# Altium footprint library footprints.PcbLib: 3 footprints
Each footprint in its own frame and in the unit in brackets; x right, y up, seen from the top. Pads: shape width x height; smd on the part's side, far side on the other; paste and mask are expansions set on the pad; w line width, h text height; cw(c..) or ccw(c..) is an arc to the next point about the centre after c.
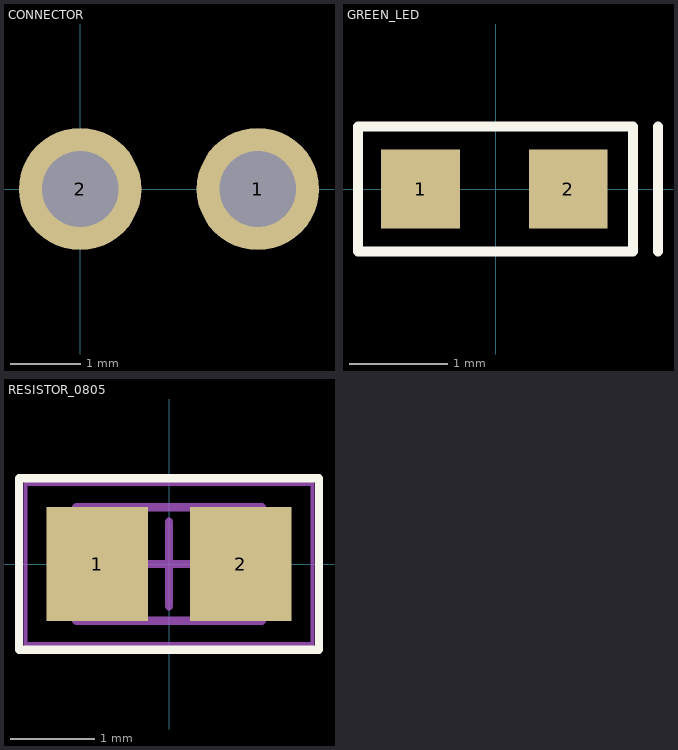
[diagram p0: the footprints below, top view; thin cyan lines are the x and y axes]

## CONNECTOR [mm]
pads (2):
  round 1.75 hole 1.09: 1(2.54,0) 2(0,0)
3D body "705530001.stp": height 5.06, standoff -5.22, extent -2.413,-12.954 4.953,0.635

## GREEN_LED [mm]
pads (2):
  rect 0.8x0.8 smd: 1(-0.762,0) 2(0.738,0)
Top Overlay:
  lines w0.1: 1.651,-0.635 1.651,0.635 ; -1.397,-0.635 -1.397,0.635 1.397,0.635 1.397,-0.635 -1.397,-0.635

## RESISTOR_0805 [mm] "Chip Resistor, 2-Leads, Body 2.00x1.25mm, IPC Medium Density"
height 0.6
pads (2):
  rect 1.2x1.35 smd: 1(-0.85,0) 2(0.85,0)
Top Overlay:
  lines w0.1: -1.778,-1.016 1.778,-1.016 1.778,1.016 -1.778,1.016 -1.778,-1.016
Mechanical 13:
  lines w0.1: -1.1,-0.675 1.1,-0.675 1.1,0.675 -1.1,0.675 -1.1,-0.675
Mechanical 15:
  lines w0.05: -1.7,-0.95 1.7,-0.95 1.7,0.95 -1.7,0.95 -1.7,-0.95
  lines w0.1: -0.5,0 0.5,0 ; 0,-0.5 0,0.5
3D body: height 0.25, standoff 0, extent -1.1,-0.675 1.1,0.675